# EAGLE library part DIP-8X (library #PaJa_prepinace)
DIP Prepinac - 8x
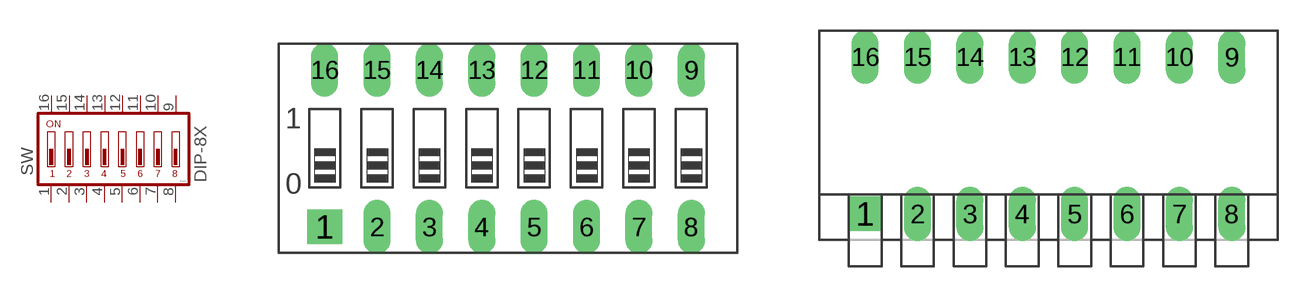
[diagram p6: symbol with the pads of DIP-8X; footprints DIP-8X, DP-08]

Designator prefix SW

## DIP-8X_DIP  [DIP-8X]
1  1  pas
2  2  pas
3  3  pas
4  4  pas
5  5  pas
6  6  pas
7  7  pas
8  8  pas
9  9  pas
10  10  pas
11  11  pas
12  12  pas
13  13  pas
14  14  pas
15  15  pas
16  16  pas

## DIP-8X_DIP_PIANO  [DP-08]
Pads as for DIP-8X

## Footprint DIP-8X (pad centres in mm)
DIP prepinac - 8x
drill 0.813 pad 1.676 square: 1 -8.89,-3.81
drill 0.813 pad 1.27 long: 2 -6.35,-3.81; 3 -3.81,-3.81; 4 -1.27,-3.81; 5 1.27,-3.81; 6 3.81,-3.81; 7 6.35,-3.81; 8 8.89,-3.81; 9 8.89,3.81; 10 6.35,3.81; 11 3.81,3.81; 12 1.27,3.81; 13 -1.27,3.81; 14 -3.81,3.81; 15 -6.35,3.81; 16 -8.89,3.81

## Footprint DP-08 (pad centres in mm)
DIP prepinac - typ piano - 8x
drill 0.813 pad 1.676 square: 1 -8.89,-3.81
drill 0.813 pad 1.27 long: 2 -6.35,-3.81; 3 -3.81,-3.81; 4 -1.27,-3.81; 5 1.27,-3.81; 6 3.81,-3.81; 7 6.35,-3.81; 8 8.89,-3.81; 9 8.89,3.81; 10 6.35,3.81; 11 3.81,3.81; 12 1.27,3.81; 13 -1.27,3.81; 14 -3.81,3.81; 15 -6.35,3.81; 16 -8.89,3.81